# EAGLE library part PIC16F1825-I_ST (library Deegou_IC)
Microchip PIC16F1825-I/ST, 8bit PIC Microcontroller, 32MHz, 14 kB Flash, 14-Pin TSSOP Source: Datasheet <http://ww1.microchip.com/downloads/en/devicedoc/41440a.pdf>
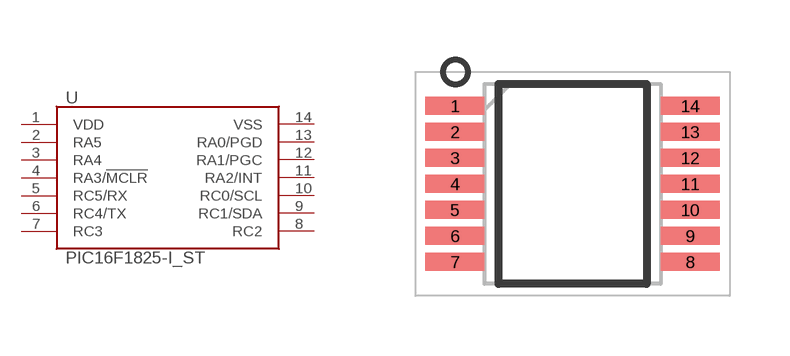
[diagram p35: symbol with the pads of SOP65P640X120-14N; footprint SOP65P640X120-14N]

Designator prefix U

## PIC16F1825-I_ST (ALLIED_NUMBER: 70048388; ALLIED_PRICE-STOCK: https://www.alliedelec.com/microchip-technology-inc-pic16f1825-i-st/70048388/; DESCRIPTION: Microchip PIC16F1825-I/ST, 8bit PIC Microcontroller, 32MHz, 14 kB Flash, 14-Pin TSSOP; HEIGHT: 1.2mm; MANUFACTURER_NAME: Microchip; MANUFACTURER_PART_NUMBER: PIC16F1825-I/ST; MOUSER_PART_NUMBER: 579-PIC16F1825-I/ST; MOUSER_PRICE-STOCK: https://www.mouser.com/Search/Refine.aspx?Keyword=579-PIC16F1825-I%2FST; RS_PART_NUMBER: 9115669; RS_PRICE-STOCK: https://uk.rs-online.com/web/p/products/9115669)  [SOP65P640X120-14N]
1  VDD
2  RA5
3  RA4
4  RA3/!MCLR
5  RC5/RX
6  RC4/TX
7  RC3
8  RC2
9  RC1/SDA
10  RC0/SCL
11  RA2/INT
12  RA1/PGC
13  RA0/PGD
14  VSS

## Footprint SOP65P640X120-14N (pad centres in mm)
PIC16F1825-I/ST
smd 1.475 x 0.45: 1 -2.938,1.95; 2 -2.938,1.3; 3 -2.938,0.65; 4 -2.938,0; 5 -2.938,-0.65; 6 -2.938,-1.3; 7 -2.938,-1.95; 8 2.938,-1.95; 9 2.938,-1.3; 10 2.938,-0.65; 11 2.938,0; 12 2.938,0.65; 13 2.938,1.3; 14 2.938,1.95